# Altium integrated library Seeed Xiao SMD21.IntLib: 1 symbol
Pins are listed as number, name and electrical type; pins without a type are passive.

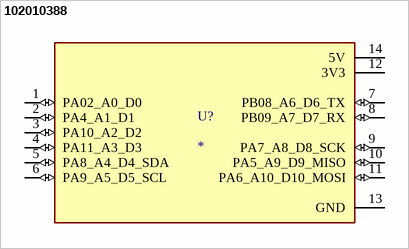
[diagram p0: symbol 102010388]

## 102010388
designator U?
Seeeduino XIAO Development Board, Pre-Soldered [Seeed Studio] 102010388 Seeeduino XIAO Development Board, Pre-Soldered; MF: Seeed Technology Co., Ltd; Price: None; Availability: In Stock; Check_prices: https://www.snapeda.com/parts/102010388/Seeed+Technology+Co.%252C+Ltd/view-part/?ref=eda; MP: 102010388; Package: None; SnapEDA_Link: https://www.snapeda.com/parts/102010388/Seeed+Technology+Co.%252C+Ltd/view-part/?ref=snap; Value: *; Purchase-URL: https://pricing.snapeda.com/search/part/102010388/?ref=eda
footprint MODULE_102010388
pins: 1 PA02_A0_D0 (io), 2 PA4_A1_D1 (io), 3 PA10_A2_D2 (io), 4 PA11_A3_D3 (io), 5 PA8_A4_D4_SDA (io), 6 PA9_A5_D5_SCL (io), 7 PB08_A6_D6_TX (io), 8 PB09_A7_D7_RX (io), 9 PA7_A8_D8_SCK (io), 10 PA5_A9_D9_MISO (io), 11 PA6_A10_D10_MOSI (io), 12 3V3 (power), 13 GND (power), 14 5V (power)